# Altium schematic symbol library ESP32-S3-DevKitC-1U-N8R8.SchLib: 1 symbol
Pins are listed as number, name and electrical type; pins without a type are passive.

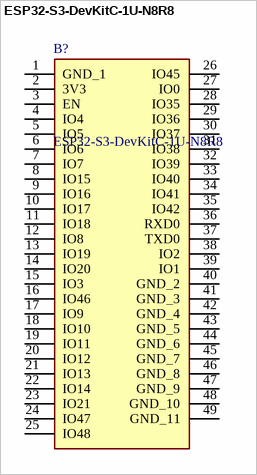
[diagram p0: symbol ESP32-S3-DevKitC-1U-N8R8]

## ESP32-S3-DevKitC-1U-N8R8
designator B?
ESP32-S3-WROOM-1U-N8R8 ESP32-S Transceiver; 802.11 b/g/n (Wi-Fi, WiFi, WLAN), Bluetooth 5.x (BLE) 2.4GHz Evaluation Board; Manufacturer_Name: Espressif Systems; Geometry.Height: 3.35mm; Manufacturer_Part_Number: ESP32-S3-DevKitC-1U-N8R8; Mouser Part Number: 356-32S3DEVKTC1UN8R8; Mouser Price/Stock: https://www.mouser.co.uk/ProductDetail/Espressif-Systems/ESP32-S3-DevKitC-1U-N8R8?qs=Li%252BoUPsLEnv4qqHEsdK%252Bbw%3D%3D; Arrow Part Number: *; Arrow Price/Stock: *; Datasheet Link: https://www.espressif.com/sites/default/files/documentation/esp32-s3-wroom-1_wroom-1u_datasheet_en.pdf
footprint ESP32S3DevKitC1UN8R8
pins: 1 GND_1, 2 3V3, 3 EN, 4 IO4, 5 IO5, 6 IO6, 7 IO7, 8 IO15, 9 IO16, 10 IO17, 11 IO18, 12 IO8, 13 IO19, 14 IO20, 15 IO3, 16 IO46, 17 IO9, 18 IO10, 19 IO11, 20 IO12, 21 IO13, 22 IO14, 23 IO21, 24 IO47, 25 IO48, 26 IO45, 27 IO0, 28 IO35, 29 IO36, 30 IO37, 31 IO38, 32 IO39, 33 IO40, 34 IO41, 35 IO42, 36 RXD0, 37 TXD0, 38 IO2, 39 IO1, 40 GND_2, 41 GND_3, 42 GND_4, 43 GND_5, 44 GND_6, 45 GND_7, 46 GND_8, 47 GND_9, 48 GND_10, 49 GND_11